# Altium schematic symbol library IMU.SCHLIB: 5 symbols
Pins are listed as number, name and electrical type; pins without a type are passive.

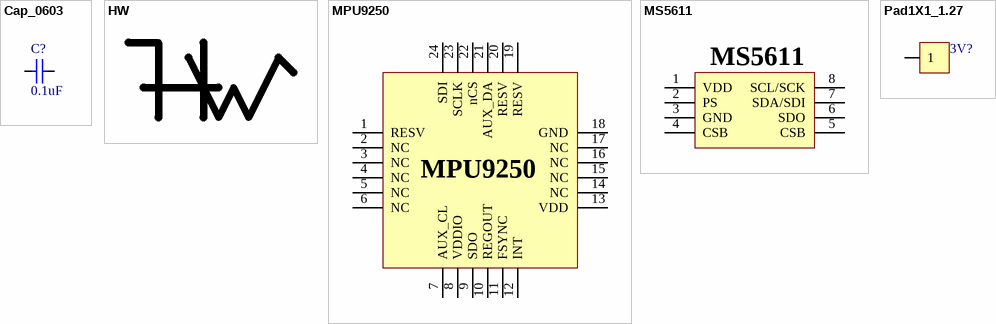
[diagram p0: symbols Cap_0603 to Pad1X1_1.27]

## Cap_0603
designator C?  value 0.1uF  (hidden comment: Cap_0603)
Capacitor
pins: 1, 2

## HW
designator Mark?, comment Mark  (value not drawn)
footprint Logo_HW

## MPU9250
designator MPU?
Sensor
footprint MPU9250 (QFN, 24-Leads, Body 3.00x3.00mm, Pitch 0.40mm, Thermal Pad 1.54x1.70mm, IPC Medium Density)
pins: 1 RESV, 2 NC, 3 NC, 4 NC, 5 NC, 6 NC, 7 AUX_CL, 8 VDDIO, 9 SDO, 10 REGOUT, 11 FSYNC, 12 INT, 13 VDD, 14 NC, 15 NC, 16 NC, 17 NC, 18 GND, 19 RESV, 20 RESV, 21 AUX_DA, 22 nCS, 23 SCLK, 24 SDI

## MS5611
designator MS?
Sensor
footprint MS5611 (QFN, 8-Leads, Body 5.00x3.00mm, Pitch 1.25mm/0.00mm, Thermal Pad 4.35x0.00mm, IPC Medium Density)
pins: 1 VDD, 2 PS, 3 GND, 4 CSB, 5 CSB, 6 SDO, 7 SDA/SDI, 8 SCL/SCK

## Pad1X1_1.27
designator 3V?  (value not drawn)
Header
footprint Pad1X1_1.27 (Connector; Header; 2 Position)
pins: 1